# EAGLE library part BGB741L7ESDE6327XTSA1 (library ruark2)
RF Amplifier IC Cellular, RKE, WiFi 50MHz ~ 3.5GHz PG-TSLP-7-1, NF=1dB, P1dB= -6.6dBm
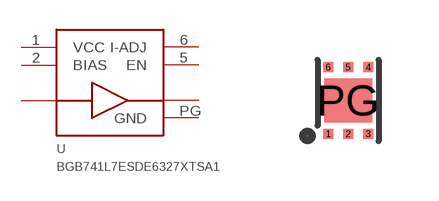
[diagram p202: symbol with the pads of PG-TSLP-7-1; footprint PG-TSLP-7-1]

Designator prefix U

## BGB741L7ESDE6327XTSA1 (PARTNO: BGB741L7ESDE6327XTSA1CT-ND)  [PG-TSLP-7-1]
1  VCC
2  BIAS
3  RF-IN
4  RF-OUT
5  EN
6  I-ADJ
PG  GND

## Footprint PG-TSLP-7-1 (pad centres in mm)
smd 0.25 x 0.25: 1 -0.5,-0.835; 2 0,-0.835; 3 0.5,-0.835; 4 0.5,0.835; 5 0,0.835; 6 -0.5,0.835
smd 1.2 x 1.1: PG 0,0